# Altium schematic symbol library DFE252010P-2R2M=P2.SchLib: 1 symbol
Pins are listed as number, name and electrical type; pins without a type are passive.

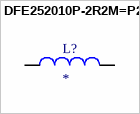
[diagram p0: symbol DFE252010P-2R2M=P2]

## DFE252010P-2R2M=P2
designator L?
Inductor with Inductance: 2.2uH Tol. +/-20%, Package: 1008 (2520); MP: DFE252010P-2R2M=P2; MF: Murata Electronics; Purchase-URL: https://pricing.snapeda.com/search/part/DFE252010P-2R2M=P2/?ref=eda; Value: *; Check_prices: https://www.snapeda.com/parts/DFE252010P-2R2M=P2/Murata%20Electronics%20North%20America/view-part/1503972/?ref=eda; Package: 2520 Murata; Availability: Warning; Price: None; SnapEDA_Link: https://www.snapeda.com/parts/DFE252010P-2R2M=P2/Murata%20Electronics%20North%20America/view-part/1503972/?ref=snap
footprint INDC2520X100N
pins: 1, 2